# Altium schematic symbol library KeyboardSwitches.SchLib: 2 symbols
Pins are listed as number, name and electrical type; pins without a type are passive.

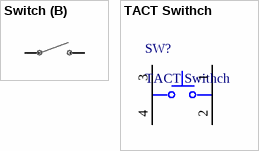
[diagram p0: symbols Switch to TACT Swithch]

## Switch
designator 1, comment 1  (value not drawn)
footprint Alps-switch
footprint MX-switch
footprint Topre
part B pins: 1, 2

## TACT Swithch
designator SW?
footprint FP-SKRAAKE010-MFG
pins: 1, 2, 3, 4